# EAGLE library part YH55-08 (library con-RJ-YH55)
RJ11-RJ12 Double 6P6C Source: YH55-08.pdf At: http://www.czt.cn/upload/file/2011-03/YH-55-08%20E55QWY-1078-6-REV36-YH-55-08%285521%206P6C%202PORTS%29%20Model%20%281%29.pdf
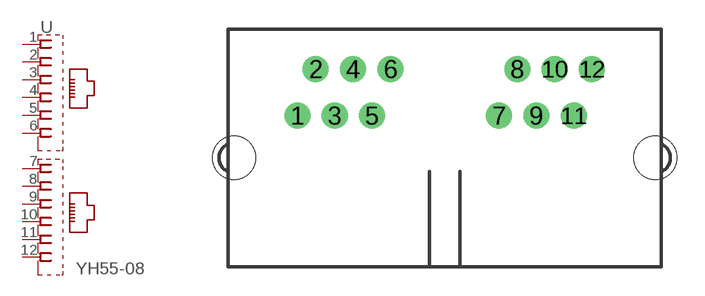
[diagram p1: symbol with the pads of YH55-08; footprint YH55-08]

Designator prefix -

## YH55-08  [YH55-08]
1  1  pas
2  2  pas
3  3  pas
4  4  pas
5  5  pas
6  6  pas
7  7  pas
8  8  pas
9  9  pas
10  10  pas
11  11  pas
12  12  pas

## Footprint YH55-08 (pad centres in mm)
drill 0.9 pad 1.422: 1 -8.128,1.538; 2 -7.128,4.078; 3 -6.088,1.538; 4 -5.088,4.078; 5 -4.048,1.538; 6 -3.048,4.078; 7 2.872,1.538; 8 3.872,4.078; 9 4.912,1.538; 10 5.912,4.078; 11 6.952,1.538; 12 7.952,4.078
hole 2.36 at -11.588,-0.762
hole 2.36 at 11.412,-0.762